# Altium schematic symbol library HMC5883L.SchLib: 1 symbol
Pins are listed as number, name and electrical type; pins without a type are passive.

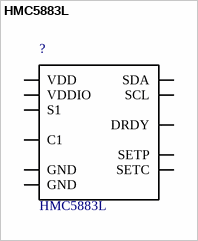
[diagram p0: symbol HMC5883L]

## HMC5883L
designator ?
Digital Compass +/- 0.8g, Lcc-16; MP: HMC5883L-T; MF: Honeywell; SnapEDA_Link: https://www.snapeda.com/parts/HMC5883L-T/Honeywell/view-part/?ref=snap; Price: None; Availability: Unavailable; Package: LCC-16 Honeywell; Value: *
footprint LPCC-16
pins: 1 SCL (io), 2 VDD (io), 4 S1 (io), 8 SETP (io), 9 GND (io), 10 C1 (io), 11 GND (io), 12 SETC (io), 13 VDDIO (io), 15 DRDY (io), 16 SDA (io)